# Altium footprint library xbreak.PcbLib: 22 footprints (part 1 of 2)
Each footprint in its own frame and in the unit in brackets; x right, y up, seen from the top. Pads: shape width x height; smd on the part's side, far side on the other; paste and mask are expansions set on the pad; w line width, h text height; cw(c..) or ccw(c..) is an arc to the next point about the centre after c.
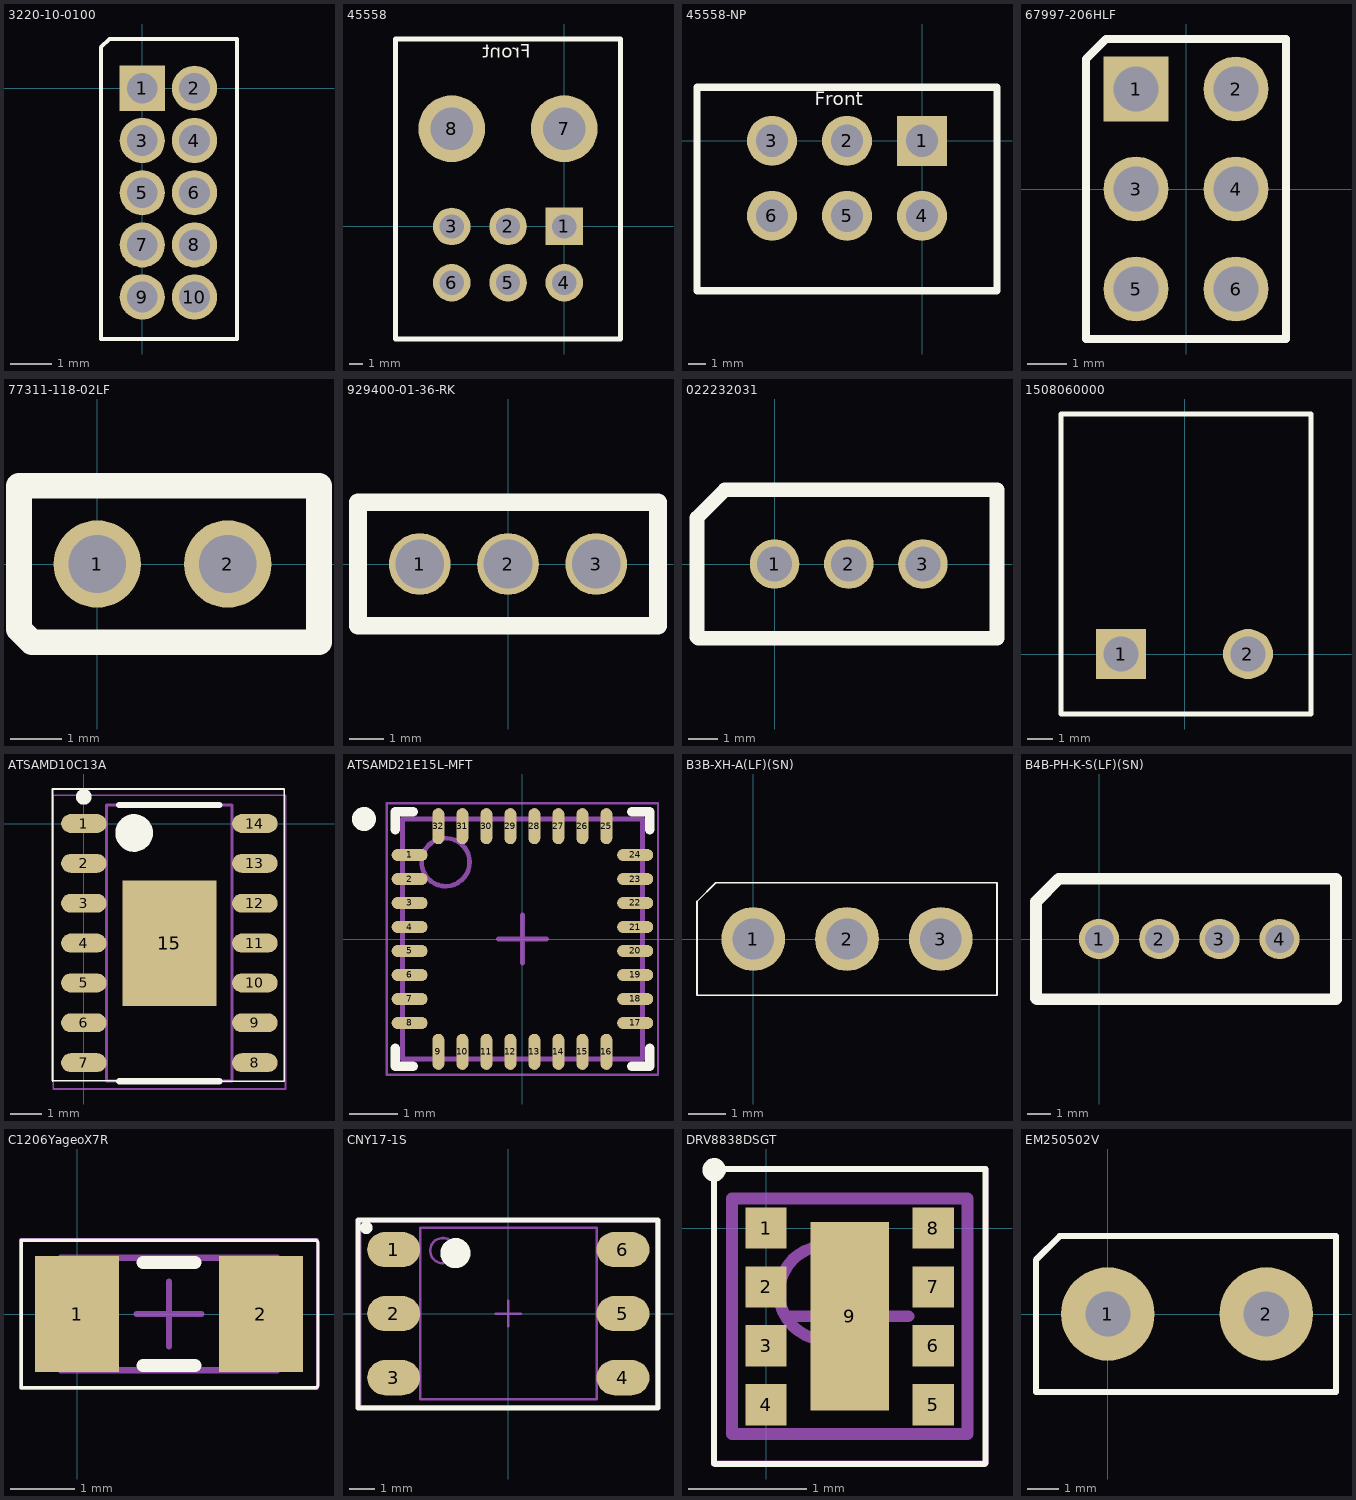
[diagram p0: the footprints below, top view; thin cyan lines are the x and y axes]

## 3220-10-0100 [mm]
pads (10):
  rect 1.1x1.1 hole 0.75: 1(0,0)
  round 1.1 hole 0.75: 2(1.27,0) 3(0,-1.27) 4(1.27,-1.27) 5(0,-2.54) 6(1.27,-2.54) 7(0,-3.81) 8(1.27,-3.81) 9(0,-5.08) 10(1.27,-5.08)
Top Overlay:
  lines w0.1: -1,-6.1 -1,1 -0.8,1.2 0.15,1.2 2.05,1.2 2.3,1.2 2.3,-6.1 -1,-6.1

## 45558 [mm] "6 CKT R/A Header Mini Fit Jr PCI-E Power"
pads (8):
  rect 2.8x2.8 hole 1.8: 1(0,0)
  round 2.8 hole 1.8: 2(-4.2,0) 3(-8.4,0) 4(0,-4.2) 5(-4.2,-4.2) 6(-8.4,-4.2)
  round 5 hole 3.2: 7(0,7.3) 8(-8.4,7.3)
Top Overlay:
  lines w0.4: -12.6,-8.4 4.2,-8.4 4.2,14 -12.6,14 -12.6,-8.4
  text "Front" at -2.5,12.6 h1

## 45558-NP [mm] "6 CKT R/A Header Mini Fit Jr PCI-E Power No-Peg"
pads (6):
  rect 2.8x2.8 hole 1.8: 1(0,0)
  round 2.8 hole 1.8: 2(-4.2,0) 3(-8.4,0) 4(0,-4.2) 5(-4.2,-4.2) 6(-8.4,-4.2)
Top Overlay:
  lines w0.4: -12.6,-8.4 -12.6,3 4.2,3 4.2,-8.4 -12.6,-8.4
  text "Front" at -6,2 h0.75

## 67997-206HLF [mil] "67997-206HLF"
height 229.92
pads (6):
  rect 65x65 hole 45: 1(-50,100)
  round 65 hole 45: 2(50,100) 3(-50,0) 4(50,0) 5(-50,-100) 6(50,-100)
Top Overlay:
  lines w8: -100,-150 100,-150 100,150 -80,150 -100,130 -100,-150

## 77311-118-02LF [mm] "CONN HEADER 2POS VERT T/H"
height 8.4
pads (2):
  round 1.7 hole 1.12: 1(0,0) 2(2.54,0)
Top Overlay:
  lines w0.5: -1.524,-1.27 -1.27,-1.524 4.318,-1.524 4.318,1.524 -1.524,1.524 -1.524,-1.27

## 929400-01-36-RK [mil] "CONN HEADER .100 SNGL STR 36POS - 3 Positions Used"
height 236.22
pads (3):
  round 70 hole 55: 1(-100,0) 2(0,0) 3(100,0)
Top Overlay:
  lines w20: -170,-70 170,-70 170,70 -170,70 -170,-70

## 022232031 [mm] "3 Pin .100 Pin Header  022232031"
height 10
pads (3):
  round 1.7 hole 1.2: 1(0,0) 2(2.54,0) 3(5.08,0)
Top Overlay:
  lines w0.5: -2.62,-2.54 -2.66,-2.5 -2.66,1.58 -1.7,2.54 0,2.54 7.62,2.54 7.62,-2.54 -2.54,-2.54

## 1508060000 [mm] "TERM BLOCK HDR 2POS R/A 5.08MM Weidmuller 1508060000"
height 8.4
pads (2):
  rect 2x2 hole 1.4: 1(-2.54,0)
  round 2 hole 1.4: 2(2.54,0)
Top Overlay:
  lines w0.203: -4.94,-2.4 5.06,-2.4 5.06,9.6 -4.94,9.6 -4.94,-2.4

## ATSAMD10C13A [mm] "SOIC, 14-Leads, Body 8.65x3.90mm, Pitch 1.27mm, Thermal Pad 4.00x3.00mm, IPC Medium Density"
height 1.75
pads (15):
  oval 1.45x0.6 smd: 1(0,0) 2(0,-1.27) 3(0,-2.54) 4(0,-3.81) 5(0,-5.08) 6(0,-6.35) 7(0,-7.62) 8(5.45,-7.62) 9(5.45,-6.35) 10(5.45,-5.08) 11(5.45,-3.81) 12(5.45,-2.54) 13(5.45,-1.27) 14(5.45,0)
  rect 3x4 smd: 15(2.725,-3.81)
Top Overlay:
  circle w0.6: c1.6,-0.3 r0.3
  circle w0.25: c0,0.85 r0.125
  lines w0.051: -0.99,-8.21 -1,-8.2 ; 1.125,-8.21 1.115,-8.2 -1,-8.2 ; 4.325,-8.21 6.39,-8.21 6.39,1.1 -0.3,1.1 -1,1.1 -1,-8.2
  lines w0.2: 1.125,-8.21 4.325,-8.21 ; 1.125,0.59 4.325,0.59
Mechanical 13:
  circle w0.1: c1.625,-0.31 r0.5
  lines w0.1: 0.725,-8.21 4.725,-8.21 4.725,0.59 0.725,0.59 0.725,-8.21
Mechanical 15:
  lines w0.05: -0.975,-8.46 6.425,-8.46 6.425,0.9 -0.975,0.9 -0.975,-8.46
  lines w0.1: 2.225,-3.81 3.225,-3.81 ; 2.725,-4.31 2.725,-3.31
3D body: height 1.75, standoff 0.25, extent 0.725,-8.21 4.725,0.59

## ATSAMD21E15L-MFT [mm] "Atmel QFN-32"
height 1
pads (32):
  oval 0.75x0.25 smd: 1(-2.35,1.75) 2(-2.35,1.25) 3(-2.35,0.75) 4(-2.35,0.25) 5(-2.35,-0.25) 6(-2.35,-0.75) 7(-2.35,-1.25) 8(-2.35,-1.75) 17(2.35,-1.75) 18(2.35,-1.25) 19(2.35,-0.75) 20(2.35,-0.25) 21(2.35,0.25) 22(2.35,0.75) 23(2.35,1.25) 24(2.35,1.75)
  oval 0.25x0.75 smd: 9(-1.75,-2.35) 10(-1.25,-2.35) 11(-0.75,-2.35) 12(-0.25,-2.35) 13(0.25,-2.35) 14(0.75,-2.35) 15(1.25,-2.35) 16(1.75,-2.35) 25(1.75,2.35) 26(1.25,2.35) 27(0.75,2.35) 28(0.25,2.35) 29(-0.25,2.35) 30(-0.75,2.35) 31(-1.25,2.35) 32(-1.75,2.35)
Top Overlay:
  circle w0.25: c-3.3,2.5 r0.125
  lines w0.2: -2.65,-2.275 -2.65,-2.65 -2.275,-2.65 ; -2.65,2.275 -2.65,2.65 -2.275,2.65 ; 2.275,-2.65 2.65,-2.65 2.65,-2.275 ; 2.275,2.65 2.65,2.65 2.65,2.275
Mechanical 13:
  circle w0.1: c-1.6,1.6 r0.5
  lines w0.1: -2.5,-2.5 -2.5,2.5 2.5,2.5 2.5,-2.5 -2.5,-2.5
Mechanical 15:
  lines w0.05: -2.825,-2.825 -2.825,2.825 2.825,2.825 2.825,-2.825 -2.825,-2.825
  lines w0.1: -0.5,0 0.5,0 ; 0,-0.5 0,0.5
3D body: height 1, standoff 0.01, extent -2.5,-2.5 2.5,2.5

## B3B-XH-A(LF)(SN) [mm] "CONN HEADER XH TOP 3POS 2.5MM"
height 7.75
pads (3):
  round 1.7 hole 1.1: 1(0,0) 2(2.5,0) 3(5,0)
Top Overlay:
  lines w0.051: -1.5,-1.5 -1.5,1 -1,1.5 6.5,1.5 6.5,-1.5 -1.5,-1.5

## B4B-PH-K-S(LF)(SN) [mm] "B4B-PH-K-S(LF)(SN) 4 Pin JST Header"
height 10
pads (4):
  round 1.7 hole 1.2: 1(0,0) 2(2.54,0) 3(5.08,0) 4(7.62,0)
Top Overlay:
  lines w0.5: -2.62,-2.54 -2.66,-2.5 -2.66,1.58 -1.7,2.54 0,2.54 10,2.54 10,-2.54 -2.54,-2.54

## C1206YageoX7R [mm] "Chip Capacitor, 2-Leads, Body 3.20x1.60mm, IPC Medium Density"
height 1.8
pads (2):
  rect 1.3x1.8 smd: 1(0,0) 2(2.85,0)
Top Overlay:
  lines w0.051: -0.864,-1.143 3.708,-1.143 3.734,-1.118 3.734,1.118 3.708,1.143 -0.864,1.143 -0.864,-1.143
  lines w0.2: 1.025,-0.8 1.825,-0.8 ; 1.025,0.8 1.825,0.8
Mechanical 13:
  lines w0.1: -0.25,-0.875 3.1,-0.875 3.1,0.875 -0.25,0.875 -0.25,-0.875
Mechanical 15:
  lines w0.05: -0.875,-1.15 3.725,-1.15 3.725,1.15 -0.875,1.15 -0.875,-1.15
  lines w0.1: 0.925,0 1.925,0 ; 1.425,-0.5 1.425,0.5
3D body: height 1.8, standoff 0, extent 2.6,-0.875 3.1,0.875
3D body: height 1.8, standoff 0, extent -0.25,-0.875 0.25,0.875
3D body: height 1.8, standoff 0, extent 0.25,-0.875 2.6,0.875

## CNY17-1S [mm] "Liteon 6SOT"
height 4
pads (6):
  oval 2.1x1.4 smd: 1(-4.55,2.54) 2(-4.55,0) 3(-4.55,-2.54) 4(4.55,-2.54) 5(4.55,0) 6(4.55,2.54)
Top Overlay:
  circle w0.6: c-2.1,2.4 r0.3
  circle w0.25: c-5.635,3.407 r0.125
  lines w0.2: -5.965,-3.755 5.939,-3.755 5.939,3.723 -5.965,3.723 -5.965,-3.755
Mechanical 13:
  circle w0.1: c-2.6,2.5 r0.5
  lines w0.1: -3.5,-3.4 3.5,-3.4 3.5,3.4 -3.5,3.4 -3.5,-3.4
Mechanical 15:
  lines w0.05: -5.85,-3.65 5.85,-3.65 5.85,3.65 -5.85,3.65 -5.85,-3.65
  lines w0.1: -0.5,0 0.5,0 ; 0,-0.5 0,0.5
3D body: height 4, standoff 0.25, extent -3.5,-3.4 3.5,3.4

## DRV8838DSGT [mm] "PSON, 8-Leads, Body 1.95x1.95mm, Pitch 0.50mm, Thermal Pad 1.60x0.67mm, IPC Medium Density"
height 0.8
pads (9):
  rect 0.35x0.35 smd: 1(0,0) 2(0,-0.5) 3(0,-1) 4(0,-1.5) 5(1.42,-1.5) 6(1.42,-1) 7(1.42,-0.5) 8(1.42,0)
  rect 0.67x1.6 smd: 9(0.71,-0.75)
Top Overlay:
  circle w0.1: c-0.441,0.494 r0.05
  lines w0.051: -0.441,-1.999 -0.441,0.494 -0.435,0.5 1.864,0.5 1.864,-1.996 1.856,-2.004 -0.436,-2.004 -0.441,-1.999
Mechanical 13:
  circle w0.1: c0.51,-0.55 r0.4
  lines w0.1: -0.29,-1.75 -0.29,0.25 1.71,0.25 1.71,-1.75 -0.29,-1.75
Mechanical 15:
  lines w0.05: -0.445,-2 -0.445,0.5 1.865,0.5 1.865,-2 -0.445,-2
  lines w0.1: 0.21,-0.75 1.21,-0.75 ; 0.71,-1.25 0.71,-0.25
3D body: height 0.8, standoff 0, extent -0.29,-1.75 1.71,0.25

## EM250502V [mm]
pads (2):
  round 3 hole 1.45: 1(0,0) 2(5.08,0)
Top Overlay:
  lines w0.2: -2.306,-2.5 -2.306,1.736 -1.542,2.5 7.318,2.5 7.318,-2.5 -2.306,-2.5